# Altium schematic symbol library SuCOELora.SCHLIB: 12 symbols
Pins are listed as number, name and electrical type; pins without a type are passive.

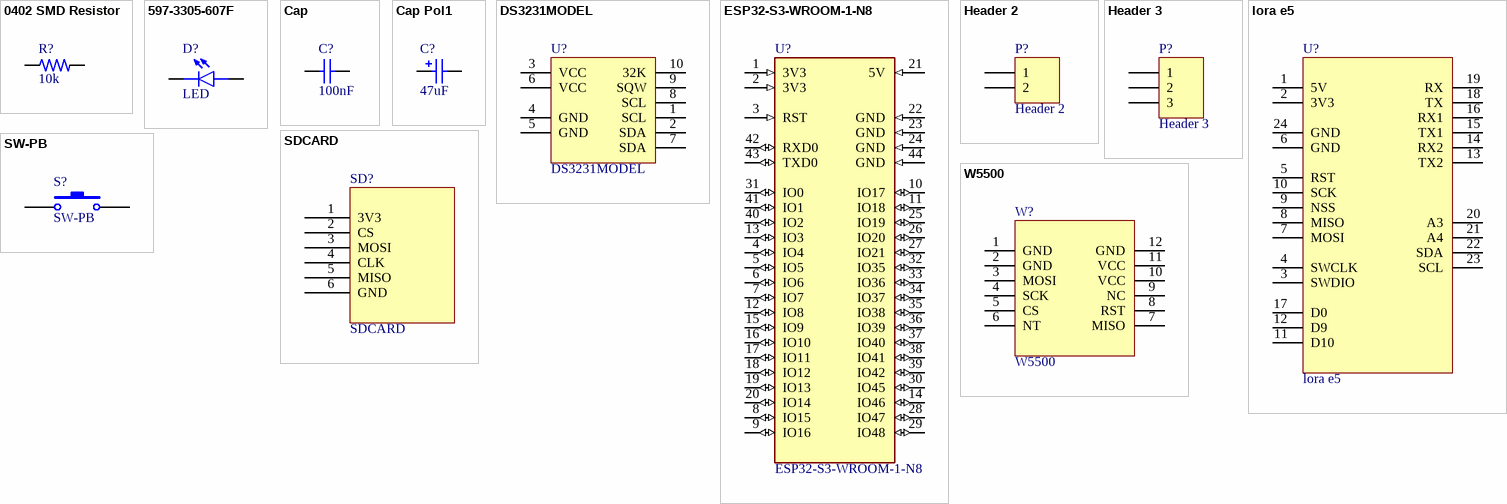
[diagram p0: symbols 0402 SMD Resistor to W5500]

## 0402 SMD Resistor
designator R?, comment 10k
Res Thick Film 0402 10K Ohm 5% 0.125W(1/8W) ±200ppm/C Pad SMD T/R; Manufacturer: Yageo; Manufacturer Part Number: RC0402JR-7W10KL; Value: 10kR; ComponentLink1Description: Link; ComponentLink1URL: *; Supplier: Future Electronics; Supplier Part Number: 5143940; RoHS: Yes; Category: Chip SMD Resistors; Stock: 480000; Pricing: 10000=0.0009, 50000=0.0009, 200000=0.0009, 500000=0.0009, 1250000=0.0009 (USD); Case/Package: 343Case; Packaging: 10Packaging; RoHS Compliant: Yes; ComponentLink2URL: https://datasheet.octopart.com/RC0402JR-7W10KL-Yageo-datasheet-164759695.pdf?src-supplier=Future+Electronics; ComponentLink2Description: https://datasheet.octopart.com/RC0402JR-7W10KL-Yageo-datasheet-164759695.pdf?src-supplier=Future+Electronics
footprint 0805
pins: 1, 2

## 597-3305-607F
designator D?, comment LED
LED Uni-Color Red 2-Pin Chip 0805 T/R; MP: 597-3305-607F; Availability: Unavailable; Value: *; Price: None; Package: None
footprint LED-R3 (Typical RED GaAs LED; 2 Leads)
pins: 1 A, 2 C

## Cap
designator C?, comment value 100nF  (hidden comment: 0805-50V-100nF±1%)
Capacitor; Published: 8-Jun-2000; LatestRevisionDate: 17-Jul-2002; LatestRevisionNote: Re-released for DXP Platform.; PackageReference: RAD-0.3; Publisher: Altium Limited; PackageDescription: Radial Cap, Thru-Hole; 2 Leads; 0.3 in Pin Spacing
footprint CC0805 (Footprint not found)
simulation model CAP (Capacitor)
signal-integrity model Cap
pins: 1, 2

## Cap Pol1
designator C?, comment value 47uF  (hidden comment: SMD-25V-47uF)
Polarized Capacitor (Radial); Published: 8-Jun-2000; LatestRevisionDate: 17-Jul-2002; LatestRevisionNote: Re-released for DXP Platform.; PackageReference: RB7.6-15; Publisher: Altium Limited; PackageDescription: Polarized Capacitor (Radial); 2 Leads
footprint SMD-EC-F4
simulation model CAP (Capacitor)
signal-integrity model Cap Pol
pins: 1, 2
1 alternate drawing of the same symbol

## DS3231MODEL
designator U?
footprint DS3231
pins: 1 SCL, 2 SDA, 3 VCC, 4 GND, 5 GND, 6 VCC, 7 SDA, 8 SCL, 9 SQW, 10 32K

## ESP32-S3-WROOM-1-N8
designator U?
<a href="https://pricing.snapeda.com/parts/ESP32S3WROOM1N8R8/Espressif%20Systems/view-part?ref=eda">Check availability</a>  <a href="https://pricing.snapeda.com/parts/ESP32-S3-WROOM-1-N8R8/Espressif%20Systems/view-part?ref=eda">Check availability</a>; MF: {'manufacturer': u'Espressif Systems'}; Package: None; Price: None; Value: *; MP: ESP32-S3-WROOM-1-N8; Availability: Unavailable
footprint ESP32-S3; pin to pad 1>1+40+41_1+41_2+41_3+41_4+41_5+41_6+41_7+41_8+41_9+41_10+41_11+41_12+41_13+41_14+41_15+41_16+41_17+41_18+41_19+41_20+41_21
pins: 1 3V3 (in), 2 3V3 (in), 3 RST (in), 4 IO4 (io), 5 IO5 (io), 6 IO6 (io), 7 IO7 (io), 8 IO15 (io), 9 IO16 (io), 10 IO17 (io), 11 IO18 (io), 12 IO8 (io), 13 IO3 (io), 14 IO46 (io), 15 IO9 (io), 16 IO10 (io), 17 IO11 (io), 18 IO12 (io), 19 IO13 (io), 20 IO14 (io), 21 5V (in), 22 GND (in), 23 GND (in), 24 GND (in), 25 IO19 (io), 26 IO20 (io), 27 IO21 (io), 28 IO47 (io), 29 IO48 (io), 30 IO45 (io), 31 IO0 (io), 32 IO35 (io), 33 IO36 (io), 34 IO37 (io), 35 IO38 (io), 36 IO39 (io), 37 IO40 (io), 38 IO41 (io), 39 IO42 (io), 40 IO2 (io), 41 IO1 (io), 42 RXD0 (io), 43 TXD0 (io), 44 GND (in)

## Header 2
designator P?
Header, 2-Pin; LatestRevisionDate: 17-Jul-2002; LatestRevisionNote: Re-released for DXP Platform.; Publisher: Altium Limited
footprint 2EDJKM3.81-2P
signal-integrity model Connector
pins: 1, 2

## Header 3
designator P?
Header, 3-Pin; LatestRevisionDate: 17-Jul-2002; LatestRevisionNote: Re-released for DXP Platform.; Publisher: Altium Limited
footprint HDR1X3 (Connector; Header; 3 Position)
signal-integrity model Connector
pins: 1, 2, 3

## lora e5
designator U?
footprint USB2.0-TYPE-C (Footprint not found)
pins: 1 5V, 2 3V3, 3 SWDIO, 4 SWCLK, 5 RST, 6 GND, 7 MOSI, 8 MISO, 9 NSS, 10 SCK, 11 D10, 12 D9, 13 TX2, 14 RX2, 15 TX1, 16 RX1, 17 D0, 18 TX, 19 RX, 20 A3, 21 A4, 22 SDA, 23 SCL, 24 GND

## SDCARD
designator SD?
footprint SDCARD
pins: 1 3V3, 2 CS, 3 MOSI, 4 CLK, 5 MISO, 6 GND

## SW-PB
designator S?
Switch; Published: 24-Mar-1999; LatestRevisionDate: 17-Jul-2002; LatestRevisionNote: Re-released for DXP Platform.; PackageReference: SPST-2; Publisher: Altium Limited; PackageDescription: Switch; 2 Leads
footprint KEY-4P
pins: 1, 2

## W5500
designator W?
footprint W5500
pins: 1 GND, 2 GND, 3 MOSI, 4 SCK, 5 CS, 6 NT, 7 MISO, 8 RST, 9 NC, 10 VCC, 11 VCC, 12 GND